# Altium footprint library 7S_WR.PcbLib: 76 footprints (part 5 of 5)
Each footprint in its own frame and in the unit in brackets; x right, y up, seen from the top. Pads: shape width x height; smd on the part's side, far side on the other; paste and mask are expansions set on the pad; w line width, h text height; cw(c..) or ccw(c..) is an arc to the next point about the centre after c.
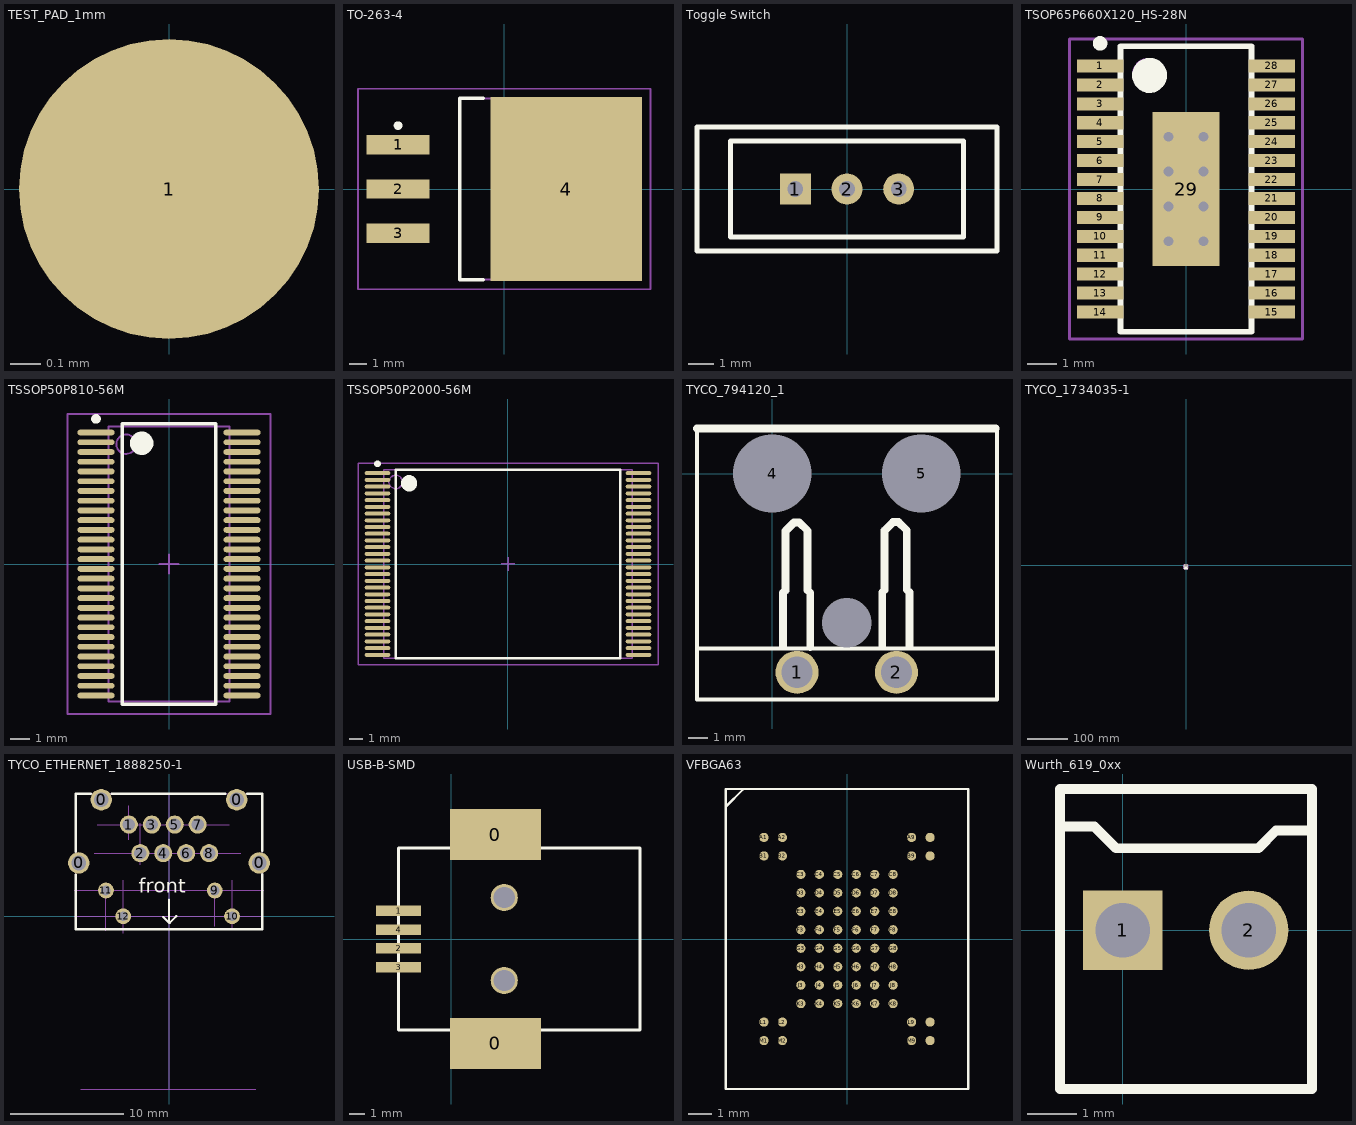
[diagram p4: the footprints below, top view; thin cyan lines are the x and y axes]

## TEST_PAD_1mm [mm] "SMD 1mm Test Pad"
pads (1):
  round 1 smd: 1(0,0)

## TO-263-4 [mm] "D2-PAK, 4-Leads, Body 8.6x10.2mm, Pitch 2.54mm, Lead Span 14.2mm, IPC Low Density"
height 4.64
pads (4):
  rect 3.6x1.1 smd: 1(-6.1,2.54) 2(-6.1,0) 3(-6.1,-2.54)
  rect 8.7x10.55 smd: 4(3.55,0)
Top Overlay:
  circle w0.25: c-6.1,3.64 r0.125
  lines w0.2: -1.2,-5.2 -2.55,-5.2 -2.55,5.2 -1.2,5.2
Mechanical 13:
  lines w0.1: -2.55,-5.2 -2.55,5.2 6.34,5.2 6.34,-5.2 -2.55,-5.2
Mechanical 15:
  lines w0.1: -0.5,0 0.5,0 ; 0,-0.5 0,0.5 ; -8.4,-5.75 -8.4,5.75 8.4,5.75 8.4,-5.75 -8.4,-5.75
3D body: height 4.64, standoff 0, extent -2.549,-5.199 6.339,5.199

## Toggle Switch [mm] "SPDT Subminiature Toggle Switch, Vertical Actuation"
pads (3):
  rect 1.2x1.2 hole 0.6: 1(-2,0)
  round 1.2 hole 0.6: 2(0,0) 3(2,0)
Top Overlay:
  lines w0.2: -5.8,-2.4 -5.8,2.4 ; -5.775,-2.4 5.78,-2.4 ; -5.775,2.4 5.78,2.4 ; -4.5,1.84 -4.5,-1.85 4.5,-1.85 ; -4.5,1.85 4.5,1.85 4.5,-1.825 ; 5.8,-2.4 5.8,2.4

## TSOP65P660X120_HS-28N [mm] "TSOP, 28-Leads, Body 9,8x4,5mm (max), Pitch 0,65mm, IPC Medium Density"
height 1.2
pads (29):
  rect 1.6x0.45 smd: 1(-2.95,4.225) 2(-2.95,3.575) 3(-2.95,2.925) 4(-2.95,2.275) 5(-2.95,1.625) 6(-2.95,0.975) 7(-2.95,0.325) 8(-2.95,-0.325) 9(-2.95,-0.975) 10(-2.95,-1.625) 11(-2.95,-2.275) 12(-2.95,-2.925) 13(-2.95,-3.575) 14(-2.95,-4.225) 15(2.95,-4.225) 16(2.95,-3.575) 17(2.95,-2.925) 18(2.95,-2.275) 19(2.95,-1.625) 20(2.95,-0.975) 21(2.95,-0.325) 22(2.95,0.325) 23(2.95,0.975) 24(2.95,1.625) 25(2.95,2.275) 26(2.95,2.925) 27(2.95,3.575) 28(2.95,4.225)
  rect 2.3x5.3 smd: 29(0,0)
via 0.6,-1.8 diameter 0.66 hole 0.33
via -0.6,-1.8 diameter 0.66 hole 0.33
via 0.6,-0.6 diameter 0.66 hole 0.33
via -0.6,-0.6 diameter 0.66 hole 0.33
via 0.6,0.6 diameter 0.66 hole 0.33
via -0.6,0.6 diameter 0.66 hole 0.33
via 0.6,1.8 diameter 0.66 hole 0.33
via -0.6,1.8 diameter 0.66 hole 0.33
Top Overlay:
  circle w0.6: c-1.25,3.9 r0.3
  circle w0.25: c-2.95,5 r0.125
  lines w0.2: -2.25,-4.9 2.25,-4.9 2.25,4.9 -2.25,4.9 -2.25,-4.9
Mechanical 13:
  circle w0.1: c-1.3,3.95 r0.5
  lines w0.1: -2.25,-4.9 2.25,-4.9 2.25,4.9 -2.25,4.9 -2.25,-4.9
Mechanical 15:
  lines w0.1: -0.5,0 0.5,0 ; 0,-0.5 0,0.5 ; -4,-5.15 4,-5.15 4,5.15 -4,5.15 -4,-5.15
3D body: height 1.2, standoff 0.15, extent -2.25,-4.9 2.25,4.9

## TSSOP50P810-56M [mm] "TSSOP, 56-Leads, Body 14x6.1mm, Pitch 0.5mm, IPC Low Density"
height 1.2
pads (56):
  oval 1.9x0.3 smd: 1(-3.75,6.75) 2(-3.75,6.25) 3(-3.75,5.75) 4(-3.75,5.25) 5(-3.75,4.75) 6(-3.75,4.25) 7(-3.75,3.75) 8(-3.75,3.25) 9(-3.75,2.75) 10(-3.75,2.25) 11(-3.75,1.75) 12(-3.75,1.25) 13(-3.75,0.75) 14(-3.75,0.25) 15(-3.75,-0.25) 16(-3.75,-0.75) 17(-3.75,-1.25) 18(-3.75,-1.75) 19(-3.75,-2.25) 20(-3.75,-2.75) 21(-3.75,-3.25) 22(-3.75,-3.75) 23(-3.75,-4.25) 24(-3.75,-4.75) 25(-3.75,-5.25) 26(-3.75,-5.75) 27(-3.75,-6.25) 28(-3.75,-6.75) 29(3.75,-6.75) 30(3.75,-6.25) 31(3.75,-5.75) 32(3.75,-5.25) 33(3.75,-4.75) 34(3.75,-4.25) 35(3.75,-3.75) 36(3.75,-3.25) 37(3.75,-2.75) 38(3.75,-2.25) 39(3.75,-1.75) 40(3.75,-1.25) 41(3.75,-0.75) 42(3.75,-0.25) 43(3.75,0.25) 44(3.75,0.75) 45(3.75,1.25) 46(3.75,1.75) 47(3.75,2.25) 48(3.75,2.75) 49(3.75,3.25) 50(3.75,3.75) 51(3.75,4.25) 52(3.75,4.75) 53(3.75,5.25) 54(3.75,5.75) 55(3.75,6.25) 56(3.75,6.75)
Top Overlay:
  circle w0.6: c-1.4,6.2 r0.3
  circle w0.25: c-3.75,7.45 r0.125
  lines w0.2: -2.4,-7.2 2.4,-7.2 2.4,7.2 -2.4,7.2 -2.4,-7.2
Mechanical 13:
  circle w0.1: c-2.2,6.15 r0.5
  lines w0.1: -3.1,-7.05 3.1,-7.05 3.1,7.05 -3.1,7.05 -3.1,-7.05
Mechanical 15:
  lines w0.1: -0.5,0 0.5,0 ; 0,-0.5 0,0.5 ; -5.2,-7.7 5.2,-7.7 5.2,7.7 -5.2,7.7 -5.2,-7.7
3D body: height 1.2, standoff 0, extent -3.1,-7.05 3.1,7.05

## TSSOP50P2000-56M [mm] "TSSOP, 56-Leads, Body 14x18.4mm, Pitch 0.5mm, IPC Low Density"
height 1.2
pads (56):
  oval 1.9x0.3 smd: 1(-9.7,6.75) 2(-9.7,6.25) 3(-9.7,5.75) 4(-9.7,5.25) 5(-9.7,4.75) 6(-9.7,4.25) 7(-9.7,3.75) 8(-9.7,3.25) 9(-9.7,2.75) 10(-9.7,2.25) 11(-9.7,1.75) 12(-9.7,1.25) 13(-9.7,0.75) 14(-9.7,0.25) 15(-9.7,-0.25) 16(-9.7,-0.75) 17(-9.7,-1.25) 18(-9.7,-1.75) 19(-9.7,-2.25) 20(-9.7,-2.75) 21(-9.7,-3.25) 22(-9.7,-3.75) 23(-9.7,-4.25) 24(-9.7,-4.75) 25(-9.7,-5.25) 26(-9.7,-5.75) 27(-9.7,-6.25) 28(-9.7,-6.75) 29(9.7,-6.75) 30(9.7,-6.25) 31(9.7,-5.75) 32(9.7,-5.25) 33(9.7,-4.75) 34(9.7,-4.25) 35(9.7,-3.75) 36(9.7,-3.25) 37(9.7,-2.75) 38(9.7,-2.25) 39(9.7,-1.75) 40(9.7,-1.25) 41(9.7,-0.75) 42(9.7,-0.25) 43(9.7,0.25) 44(9.7,0.75) 45(9.7,1.25) 46(9.7,1.75) 47(9.7,2.25) 48(9.7,2.75) 49(9.7,3.25) 50(9.7,3.75) 51(9.7,4.25) 52(9.7,4.75) 53(9.7,5.25) 54(9.7,5.75) 55(9.7,6.25) 56(9.7,6.75)
Top Overlay:
  circle w0.25: c-9.7,7.45 r0.125
  circle w0.6: c-7.35,6 r0.3
  lines w0.2: -8.35,-7 -8.35,7 8.35,7 8.35,-7 -8.35,-7
Mechanical 13:
  circle w0.1: c-8.35,6.1 r0.5
  lines w0.1: -9.25,-7 -9.25,7 9.25,7 9.25,-7 -9.25,-7
Mechanical 15:
  lines w0.1: -0.5,0 0.5,0 ; 0,-0.5 0,0.5 ; -11.15,-7.5 -11.15,7.5 11.15,7.5 11.15,-7.5 -11.15,-7.5
3D body: height 1.2, standoff 0, extent -9.25,-7 9.25,7

## TYCO_794120_1 [mm] "CONN HEADER PIN RT/ANG 2POS TIN"
height 8.76
pads (5):
  round 2.2 hole 1.6: 1(1.27,-10.16) 2(6.35,-10.16)
  round 0 hole 2.54 unplated mask+1.1: 3(3.81,-7.62)
  round 1 hole 4 unplated mask+1.1: 4(0,0) 5(7.62,0)
Top Overlay:
  lines w0.2: -3.845,-8.94 11.485,-8.94 ; -3.84,2.3 -3.84,-11.545 11.49,-11.545 11.49,2.24 11.43,2.3
  lines w0.4: -3.84,2.3 11.43,2.3 ; 0.555,-8.845 0.555,-6.09 0.675,-5.97 0.675,-2.935 1.11,-2.5 1.38,-2.5 1.81,-2.93 1.81,-5.96 1.945,-6.095 1.945,-8.86 ; 5.625,-8.82 5.625,-6.065 5.745,-5.945 5.745,-2.91 6.18,-2.475 6.45,-2.475 6.88,-2.905 6.88,-5.935 7.015,-6.07 7.015,-8.835

## TYCO_1734035-1 [mm] "SMD, Right Angle, 5 Position, Type B, Mini USB Receptacle"
height 3.95
pads (11):
  rect 0.5x2.3 smd: 1(-1.6,0) 2(-0.8,0) 3(0,0) 4(0.8,0) 5(1.6,0)
  rect 2x2.5 smd: 6(-4.45,-5.6) 6(-4.45,-0.1) 6(4.45,-5.6) 6(4.45,-0.1)
  round 0.5 hole 0.9 unplated mask+0.2: MTG1(-2.2,-2.6) MTG2(2.2,-2.6)
Top Overlay:
  drawing of 2951 lines, arcs and shapes, not listed
Mechanical 8:
  circle w0.1: c2.2,-2.6 r0.45
  circle w0.1: c-2.2,-2.6 r0.45
  lines w0.1: -4.95,-5.6 -4.45,-5.6 ; -4.95,-0.1 -4.45,-0.1 ; -4.45,-7.85 0,-7.85 4.45,-7.85 ; -4.45,-6.1 -4.45,-5.6 ; -4.45,-5.1 -4.45,-5.6 ; -4.45,-0.6 -4.45,-0.1 ; -4.45,0.4 -4.45,-0.1 ; -3.95,-5.6 -4.45,-5.6 ; -3.95,-0.1 -4.45,-0.1 ; -2.7,-2.6 -2.2,-2.6 ; -2.2,-3.1 -2.2,-2.6 ; -2.2,-2.1 -2.2,-2.6 ; -2.1,0 -1.6,0 ; -1.7,-2.6 -2.2,-2.6 ; -1.6,-0.5 -1.6,0 ; -1.6,0.5 -1.6,0 ; -0.8,-0.5 -0.8,0 ; -0.8,0.5 -0.8,0 ; 0,-0.5 0,0 ; 0,0.5 0,0 ; 0.8,-0.5 0.8,0 ; 0.8,0.5 0.8,0 ; 1.6,-0.5 1.6,0 ; 1.6,0.5 1.6,0 ; 1.7,-2.6 2.2,-2.6 ; 2.1,0 1.6,0 ; 2.2,-3.1 2.2,-2.6 ; 2.2,-2.1 2.2,-2.6 ; 2.7,-2.6 2.2,-2.6 ; 3.95,-5.6 4.45,-5.6 ; 3.95,-0.1 4.45,-0.1 ; 4.45,-6.1 4.45,-5.6 ; 4.45,-5.1 4.45,-5.6 ; 4.45,-0.6 4.45,-0.1 ; 4.45,0.4 4.45,-0.1 ; 4.95,-5.6 4.45,-5.6 ; 4.95,-0.1 4.45,-0.1 ; -1.6,0 -0.8,0 ; -0.8,0 0,0 ; 0,0 0.8,0 ; 0.8,0 1.6,0 ; -5.45,-6.85 -3.45,-6.85 -3.45,-4.35 -5.45,-4.35 -5.45,-6.85 ; -5.45,-1.35 -3.45,-1.35 -3.45,1.15 -5.45,1.15 -5.45,-1.35 ; -1.85,-1.15 -1.85,1.15 -1.35,1.15 -1.35,-1.15 -1.85,-1.15 ; -1.05,-1.15 -1.05,1.15 -0.55,1.15 -0.55,-1.15 -1.05,-1.15 ; -0.25,-1.15 -0.25,1.15 0.25,1.15 0.25,-1.15 -0.25,-1.15 ; 0.55,-1.15 0.55,1.15 1.05,1.15 1.05,-1.15 0.55,-1.15 ; 1.35,-1.15 1.35,1.15 1.85,1.15 1.85,-1.15 1.35,-1.15 ; 3.45,-6.85 5.45,-6.85 5.45,-4.35 3.45,-4.35 3.45,-6.85 ; 3.45,-1.35 5.45,-1.35 5.45,1.15 3.45,1.15 3.45,-1.35
Mechanical 14:
  drawing of 2963 lines, arcs and shapes, not listed
3D body: height 4.14, standoff -0.95, extent -4.95,-8.5 4.95,0.7

## TYCO_ETHERNET_1888250-1 [mm] "para soldar"
pads (16):
  round 1.9 hole 1.3: 0(-8,4.726) 0(-6,10.326) 0(6,10.326) 0(8,4.726)
  round 1.6 hole 1.1: 1(-3.556,8.128) 2(-2.54,5.588) 3(-1.524,8.128) 4(-0.508,5.588) 5(0.508,8.128) 6(1.524,5.588) 7(2.54,8.128) 8(3.556,5.588)
  round 1.4 hole 0.85: 9(4.064,2.286) 10(5.588,0) 11(-5.588,2.286) 12(-4.064,0)
Top Overlay:
  lines w0.2: -8.255,-0.762 -8.255,3.683 ; -8.255,-0.699 -8.255,-1.143 8.255,-1.143 8.255,3.746 ; -8.255,5.715 -8.255,10.858 -6.921,10.858 ; -5.08,10.858 5.016,10.858 ; -0.508,-0.064 0,-0.572 ; 0,1.46 0,-0.572 ; 0.635,0 0.064,-0.572 0,-0.572 ; 6.921,10.858 8.255,10.858 8.255,5.779
  text "front" at -2.667,2.095 h1.27
Mechanical 1:
  lines w0.01: -7.81,-15.303 7.683,-15.303 ; 0,-15.303 0,10.858
  text "front panel" at 0.953,-14.986 h0.6
Mechanical 13:
  lines w0.01: -8.382,0 -0.254,0 8.255,0 8.255,10.858 -8.255,10.858 -8.255,0 ; -8.382,2.286 0.254,2.286 ; -8.255,-1.143 8.255,-1.143 ; -6.604,5.588 4.826,5.588 ; -6.35,8.128 5.334,8.128 ; -5.588,-1.27 -5.588,2.794 ; -4.064,-1.524 -4.064,0.127 ; -4.064,0 -4.064,3.175 ; -3.556,6.794 -3.556,8.572 ; -3.556,7.239 -3.556,9.779 ; -3.556,7.62 -3.556,8.826 -3.556,8.128 ; -2.54,4.572 -2.54,8.255 ; 0,-1.524 0,10.858 ; 0,2.286 8.382,2.286 ; 4.064,-0.889 4.064,2.921 ; 4.572,5.588 6.35,5.588 ; 5.588,-1.016 5.588,0.127 ; 5.588,0 5.588,3.175

## USB-B-SMD [mm]
pads (8):
  rect 6.04x3.4 smd: 0(2.92,-6.92) 0(2.92,6.92)
  rect 3x0.7 smd: 1(-3.5,1.87) 2(-3.5,-0.62) 3(-3.5,-1.87) 4(-3.5,0.62)
  round 1.8 hole 1.4: ""(3.5,-2.75) ""(3.5,2.75)
Top Overlay:
  lines w0.2: -3.5,-6.02 12.5,-6.02 12.5,6.02 -3.49,6.02 ; -3.5,-6.01 -3.5,6.02

## VFBGA63 [mm] "BGA, 0.80mm pitch, square; 64 pin, 10 columns X 12rows, 10.5mm X 13.00mm X 1.10mm H"
height 1
pads (64):
  round 0.4 smd: A1(-3.6,4.4) A2(-2.8,4.4) A9(2.8,4.4) A10(3.6,4.4) B1(-3.6,3.6) B2(-2.8,3.6) B9(2.8,3.6) B10(3.6,3.6) C3(-2,2.8) C4(-1.2,2.8) C5(-0.4,2.8) C6(0.4,2.8) C7(1.2,2.8) C8(2,2.8) D3(-2,2) D4(-1.2,2) D5(-0.4,2) D6(0.4,2) D7(1.2,2) D8(2,2) E3(-2,1.2) E4(-1.2,1.2) E5(-0.4,1.2) E6(0.4,1.2) E7(1.2,1.2) E8(2,1.2) F3(-2,0.4) F4(-1.2,0.4) F5(-0.4,0.4) F6(0.4,0.4) F7(1.2,0.4) F8(2,0.4) G3(-2,-0.4) G4(-1.2,-0.4) G5(-0.4,-0.4) G6(0.4,-0.4) G7(1.2,-0.4) G8(2,-0.4) H3(-2,-1.2) H4(-1.2,-1.2) H5(-0.4,-1.2) H6(0.4,-1.2) H7(1.2,-1.2) H8(2,-1.2) J3(-2,-2) J4(-1.2,-2) J5(-0.4,-2) J6(0.4,-2) J7(1.2,-2) J8(2,-2) K3(-2,-2.8) K4(-1.2,-2.8) K5(-0.4,-2.8) K6(0.4,-2.8) K7(1.2,-2.8) K8(2,-2.8) L1(-3.6,-3.6) L2(-2.8,-3.6) L9(2.8,-3.6) L10(3.6,-3.6) M1(-3.6,-4.4) M2(-2.8,-4.4) M9(2.8,-4.4) M10(3.6,-4.4)
Top Overlay:
  lines w0.1: -5.245,5.74 -4.495,6.49 ; -5.25,-6.5 -5.25,6.5 5.25,6.5 5.25,-6.5 -5.25,-6.5

## Wurth_619_0xx [mm] "CONN LOCKING HEADER 2POS .100 VERT"
height 11.5
pads (2):
  rect 1.6x1.6 hole 1.1: 1(0,0)
  round 1.6 hole 1.1: 2(2.54,0)
Top Overlay:
  lines w0.2: -1.27,-3.2 3.815,-3.2 3.815,2.85 -1.27,2.85 -1.27,-3.195 ; -1.27,2.09 -0.575,2.09 -0.14,1.655 2.735,1.655 3.09,2.01 3.81,2.01